# Altium footprint library MM5829-2700RJ4.PcbLib: 2 footprints
Each footprint in its own frame and in the unit in brackets; x right, y up, seen from the top. Pads: shape width x height; smd on the part's side, far side on the other; paste and mask are expansions set on the pad; w line width, h text height; cw(c..) or ccw(c..) is an arc to the next point about the centre after c.
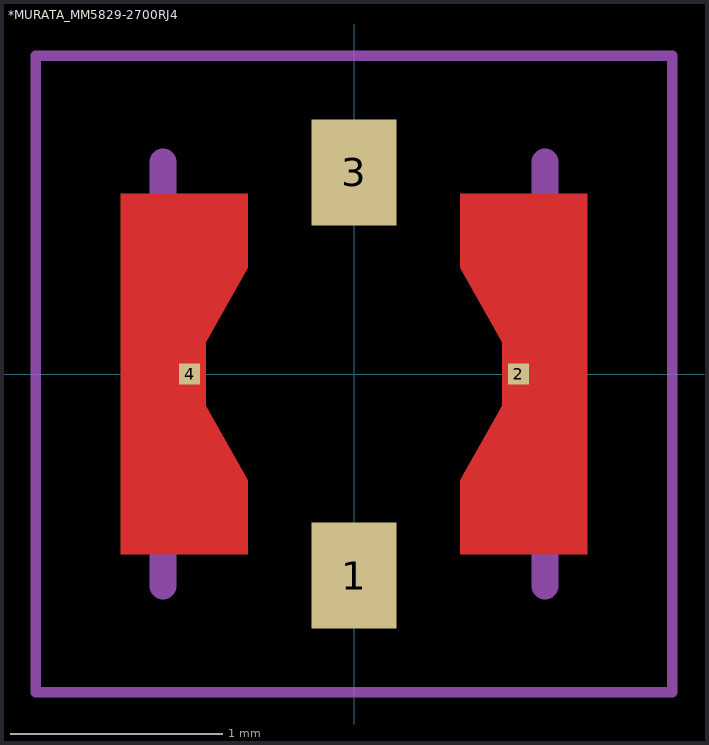
[diagram p0: the footprints below, top view; thin cyan lines are the x and y axes]

## *MURATA_MM5829-2700RJ4 [mm]
pads (4):
  rect 0.4x0.5 smd: 1(0,-0.95) 3(0,0.95)
  rect 0.1x0.1 smd: 2(0.775,0) 4(-0.775,0)
Top Layer:
  region: 0.5,-0.5 0.5,-0.85 1.1,-0.85 1.1,0.85 0.5,0.85 0.5,0.5 0.7,0.15 0.7,-0.15
  region: -0.5,0.5 -0.5,0.85 -1.1,0.85 -1.1,-0.85 -0.5,-0.85 -0.5,-0.5 -0.7,-0.15 -0.7,0.15
Top Paste:
  region: -1.101,0.7 -0.7,0.7 -0.7,-0.701 -1.101,-0.701
  region: 0.701,0.7 1.1,0.7 1.1,-0.701 0.701,-0.701
  region: -0.15,1.1 0.15,1.1 0.15,0.75 -0.15,0.75
  region: -0.15,-0.75 0.15,-0.75 0.15,-1.102 -0.15,-1.102
Top Solder:
  region: -1.102,0.85 -0.45,0.85 -0.45,-0.852 -1.102,-0.852
  region: 0.45,0.85 1.1,0.85 1.1,-0.851 0.45,-0.851
  region: -0.25,1.2 0.25,1.2 0.25,0.651 -0.25,0.651
  region: -0.25,-0.65 0.25,-0.65 0.25,-1.201 -0.25,-1.201
Mechanical 4:
  lines w0.127: -0.9,-1 -0.9,1 -0.9,-1 ; 0.9,-1 0.9,1 0.9,-1
Mechanical 16:
  lines w0.05: -1.5,-1.5 -1.5,1.5 1.5,1.5 1.5,-1.5 -1.5,-1.5

## PCBComponent_1 [mm]